# Altium integrated library ATK-VS1053 MP3.IntLib: 12 symbols
Pins are listed as number, name and electrical type; pins without a type are passive.

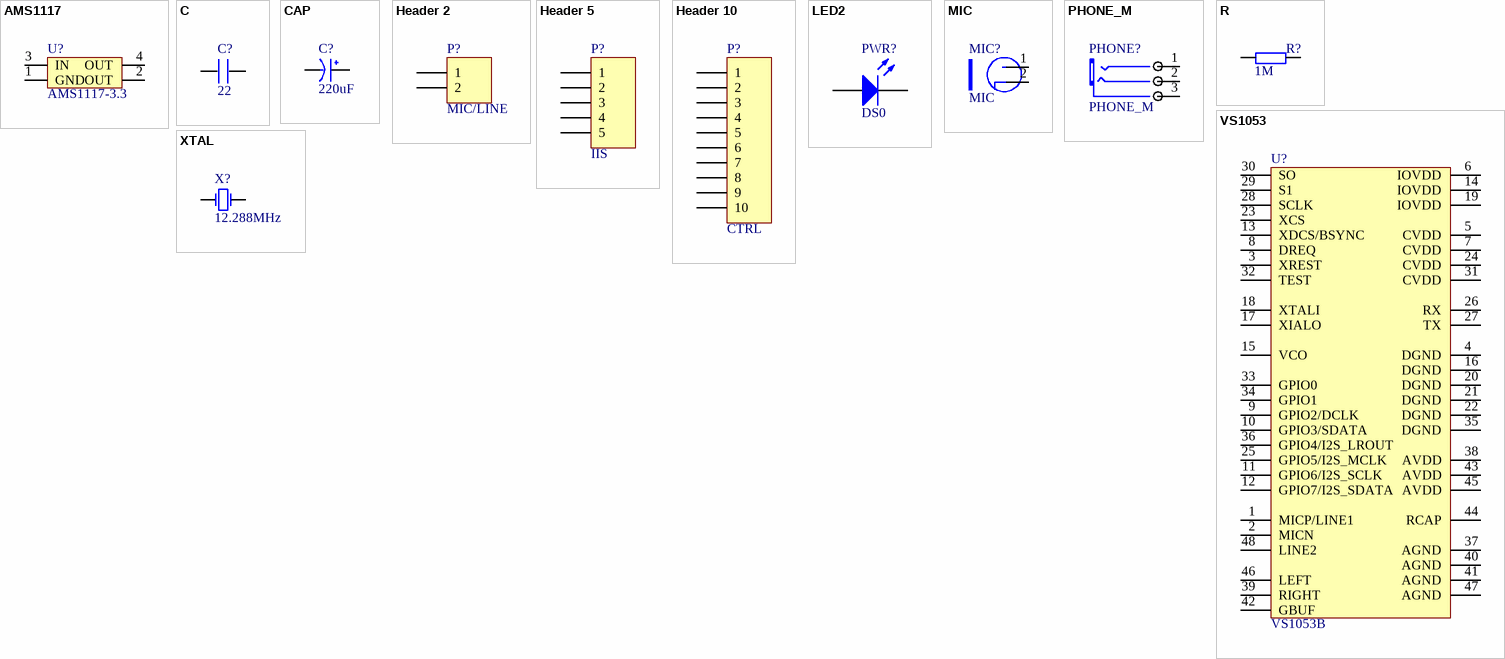
[diagram p0: symbols AMS1117 to XTAL]

## AMS1117
designator U?, comment AMS1117-3.3
footprint AMS1117
pins: 1 GND, 2 OUT, 3 IN, 4 OUT

## C
designator C?, comment 22
footprint 0603P
footprint 0805
pins: 1, 2

## CAP
designator C?, comment 220uF
footprint C1206
footprint CAP2.54 (RB.1/.2)
footprint CAP5.08 (RB.2/.4)
footprint CAP7.62 (25V 2200uF)
footprint CAP10.16 (50V10000uF)
footprint CAP10.9 (50V 2200uF)
footprint CAP3.0 (100V 10uF)
footprint CAP8.0 (25V/4700uF)
footprint CAP8.0_2 (50V/4700uF)
footprint C7040 (7MM*4MM)
footprint CC1010 (SMD;W:10mm;L:10mm;)
footprint CC6.56.5 (SMD;W:6.5mm;L:6.5mm;)
footprint CC88 (SMD;W:8mm;L:8mm;)
footprint CAP2.54M (6mm*8mm)
footprint CAP12.5 (12.5mm*20mm,pin:5.08mm)
footprint CAP5.08_2 (RB 5.08/13)
footprint C3528
pins: 1 VCC, 2 GND

## Header 2
designator P?, comment MIC/LINE
Header, 2-Pin; LatestRevisionDate: 17-Jul-2002; LatestRevisionNote: Re-released for DXP Platform.; Publisher: Altium Limited
footprint HDR1X2 (Connector; Header; 2 Position)
signal-integrity model Connector
pins: 1, 2

## Header 5
designator P?, comment IIS
Header, 5-Pin; LatestRevisionDate: 17-Jul-2002; LatestRevisionNote: Re-released for DXP Platform.; Publisher: Altium Limited
footprint HDR1X5 (Connector; Header; 5 Position)
signal-integrity model Connector
pins: 1, 2, 3, 4, 5

## Header 10
designator P?, comment CTRL
Header, 10-Pin; LatestRevisionDate: 17-Jul-2002; LatestRevisionNote: Re-released for DXP Platform.; Publisher: Altium Limited
footprint HDR1X10 (Connector; Header; 10 Position)
signal-integrity model Connector
pins: 1, 2, 3, 4, 5, 6, 7, 8, 9, 10

## LED2
designator PWR?, comment DS0
Typical RED, GREEN, YELLOW, AMBER GaAs LED; Published: 8-Jun-2000; LatestRevisionDate: 17-Jul-2002; LatestRevisionNote: Re-released for DXP Platform.; PackageDocument: Feb-2002; PackageReference: 3.2X1.6X1.1; Publisher: Altium Limited
footprint SMDLED
simulation model LED2 (Diode)
pins: 1 A, 2 K

## MIC
designator MIC?
footprint MIC
pins: 1 VCC, 2 GND
1 alternate drawing of the same symbol

## PHONE_M
designator PHONE?
footprint PHONE_ST
pins: 1 CHL, 2 CHR, 3 COM

## R
designator R?, comment 1M
footprint 0805
footprint 0603P
pins: 1, 2

## VS1053
designator U?, comment VS1053B
footprint mTQFP48 (5.8mm)
pins: 1 MICP/LINE1, 2 MICN, 3 XREST, 4 DGND, 5 CVDD, 6 IOVDD, 7 CVDD, 8 DREQ, 9 GPIO2/DCLK, 10 GPIO3/SDATA, 11 GPIO6/I2S_SCLK, 12 GPIO7/I2S_SDATA, 13 XDCS/BSYNC, 14 IOVDD, 15 VCO, 16 DGND, 17 XIALO, 18 XTALI, 19 IOVDD, 20 DGND, 21 DGND, 22 DGND, 23 XCS, 24 CVDD, 25 GPIO5/I2S_MCLK, 26 RX, 27 TX, 28 SCLK, 29 S1, 30 SO, 31 CVDD, 32 TEST, 33 GPIO0, 34 GPIO1, 35 DGND, 36 GPIO4/I2S_LROUT, 37 AGND, 38 AVDD, 39 RIGHT, 40 AGND, 41 AGND, 42 GBUF, 43 AVDD, 44 RCAP, 45 AVDD, 46 LEFT, 47 AGND, 48 LINE2

## XTAL
designator X?, comment 12.288MHz
Crystal Oscillator; Published: 8-Jun-2000; LatestRevisionDate: 17-Jul-2002; LatestRevisionNote: Re-released for DXP Platform.; Publisher: Altium Limited
footprint XTAL_US
pins: 1 OSC1, 2 OSC2